# EAGLE library part WFI32E01PE-I (library WFI32E01PE-I)
WiFi Modules - 802.11 54-pad Wi-Fi SoC module, 802.11 b/g/n, 1MB Flash, 320KB RAM, Crypto, PCB ant Source: Datasheet <https://ww1.microchip.com/downloads/aemDocuments/documents/WSG/ProductDocuments/DataSheets/PIC32MZ1025W104-MCU-and-WFI32E01-Module-with-Wi-Fi-and-Hardware-based-Security-Accelerator-Data-Sheet-DS70005425.pdf>
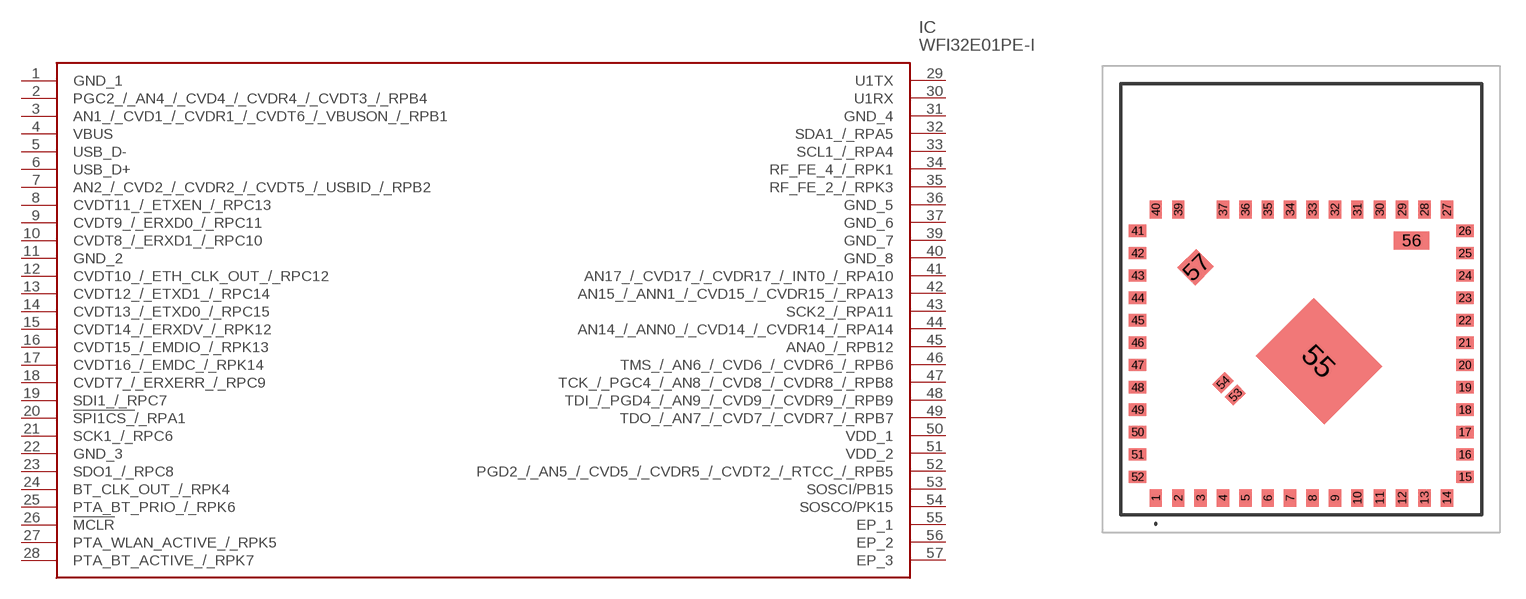
[diagram p0: symbol with the pads of WFI32E01PEI; footprint WFI32E01PEI]

Designator prefix IC

## WFI32E01PE-I (Description: WiFi Modules - 802.11 54-pad Wi-Fi SoC module, 802.11 b/g/n, 1MB Flash, 320KB RAM, Crypto, PCB ant; Height: 2.6mm; Manufacturer_Name: Microchip; Manufacturer_Part_Number: WFI32E01PE-I; Mouser_Part_Number: 579-WFI32E01PE-I; Mouser_Price-Stock: https://www.mouser.co.uk/ProductDetail/Microchip-Technology-Atmel/WFI32E01PE-I?qs=W%2FMpXkg%252BdQ6FpmXU%2Fd7PKw%3D%3D)  [WFI32E01PEI]
1  GND_1
2  PGC2_/_AN4_/_CVD4_/_CVDR4_/_CVDT3_/_RPB4
3  AN1_/_CVD1_/_CVDR1_/_CVDT6_/_VBUSON_/_RPB1
4  VBUS
5  USB_D-
6  USB_D+
7  AN2_/_CVD2_/_CVDR2_/_CVDT5_/_USBID_/_RPB2
8  CVDT11_/_ETXEN_/_RPC13
9  CVDT9_/_ERXD0_/_RPC11
10  CVDT8_/_ERXD1_/_RPC10
11  GND_2
12  CVDT10_/_ETH_CLK_OUT_/_RPC12
13  CVDT12_/_ETXD1_/_RPC14
14  CVDT13_/_ETXD0_/_RPC15
15  CVDT14_/_ERXDV_/_RPK12
16  CVDT15_/_EMDIO_/_RPK13
17  CVDT16_/_EMDC_/_RPK14
18  CVDT7_/_ERXERR_/_RPC9
19  SDI1_/_RPC7
20  !SPI1CS_!/_RPA1
21  SCK1_/_RPC6
22  GND_3
23  SDO1_/_RPC8
24  BT_CLK_OUT_/_RPK4
25  PTA_BT_PRIO_/_RPK6
26  !MCLR
27  PTA_WLAN_ACTIVE_/_RPK5
28  PTA_BT_ACTIVE_/_RPK7
29  U1TX
30  U1RX
31  GND_4
32  SDA1_/_RPA5
33  SCL1_/_RPA4
34  RF_FE_4_/_RPK1
35  RF_FE_2_/_RPK3
36  GND_5
37  GND_6
39  GND_7
40  GND_8
41  AN17_/_CVD17_/_CVDR17_/_INT0_/_RPA10
42  AN15_/_ANN1_/_CVD15_/_CVDR15_/_RPA13
43  SCK2_/_RPA11
44  AN14_/_ANN0_/_CVD14_/_CVDR14_/_RPA14
45  ANA0_/_RPB12
46  TMS_/_AN6_/_CVD6_/_CVDR6_/_RPB6
47  TCK_/_PGC4_/_AN8_/_CVD8_/_CVDR8_/_RPB8
48  TDI_/_PGD4_/_AN9_/_CVD9_/_CVDR9_/_RPB9
49  TDO_/_AN7_/_CVD7_/_CVDR7_/_RPB7
50  VDD_1
51  VDD_2
52  PGD2_/_AN5_/_CVD5_/_CVDR5_/_CVDT2_/_RTCC_/_RPB5
53  SOSCI/PB15
54  SOSCO/PK15
55  EP_1
56  EP_2
57  EP_3

## Footprint WFI32E01PEI (pad centres in mm)
WFI32E01PE-I-17
smd 0.7 x 1: 1 -8.25,-11.28; 2 -6.98,-11.28; 3 -5.71,-11.28; 4 -4.44,-11.28; 5 -3.17,-11.28; 6 -1.9,-11.28; 7 -0.63,-11.28; 8 0.64,-11.28; 9 1.91,-11.28; 10 3.18,-11.28; 11 4.45,-11.28; 12 5.72,-11.28; 13 6.99,-11.28; 14 8.26,-11.28; 27 8.26,5.09; 28 6.99,5.09; 29 5.72,5.09; 30 4.45,5.09; 31 3.18,5.09; 32 1.91,5.09; 33 0.64,5.09; 34 -0.63,5.09; 35 -1.9,5.09; 36 -3.17,5.09; 37 -4.44,5.09; 39 -6.98,5.09; 40 -8.25,5.09
smd 1 x 0.7: 15 9.29,-10.08; 16 9.29,-8.81; 17 9.29,-7.54; 18 9.29,-6.27; 19 9.29,-5; 20 9.29,-3.73; 21 9.29,-2.46; 22 9.29,-1.19; 23 9.29,0.08; 24 9.29,1.35; 25 9.29,2.62; 26 9.29,3.89; 41 -9.28,3.89; 42 -9.28,2.62; 43 -9.28,1.35; 44 -9.28,0.08; 45 -9.28,-1.19; 46 -9.28,-2.46; 47 -9.28,-3.73; 48 -9.28,-5; 49 -9.28,-6.27; 50 -9.28,-7.54; 51 -9.28,-8.81; 52 -9.28,-10.08
smd 1 x 0.7 rotated 45: 53 -3.74,-5.44; 54 -4.44,-4.74
smd 5.5 x 4.64 rotated 135: 55 1,-3.51
smd 2 x 1: 56 6.26,3.33
smd 1.5 x 1.42 rotated 45: 57 -5.99,1.82